# EAGLE library part 691311500115 (library Wurth_Elektronik_Electromechanic_Terminal_Blocks_Connectors_rev16b)
WR-TBL Serie 311 - 5.08 mm Close Vertical PCB Header , 15 Pins=>Code : Con_TBL_Pluggable_5.08_PCB_THT_Simple_V_691311500115 <http://katalog.we-online.de/media/images/eican/Con_TBL_Pluggable_5.08_PCB_THT_Simple_V_6913115001xx_pf2.jpg> Details see: http://katalog.we-online.de/en/em/691_311_500_1xx Created 2014-06-23, Karrer Zheng 2014 (C) Würth Elektronik
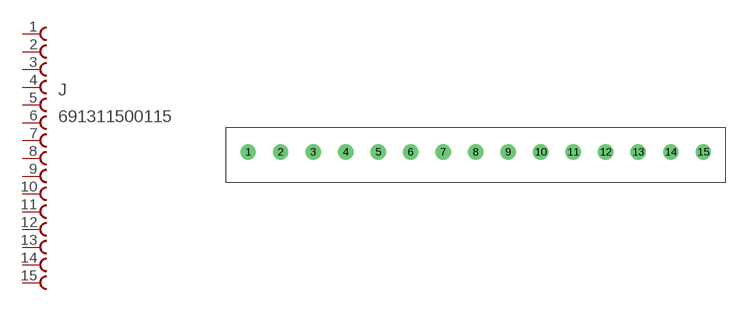
[diagram p80: symbol with the pads of 691311500115; footprint 691311500115]

Designator prefix J

## 691311500115  [691311500115]
1  1  pas
2  2  pas
3  3  pas
4  4  pas
5  5  pas
6  6  pas
7  7  pas
8  8  pas
9  9  pas
10  10  pas
11  11  pas
12  12  pas
13  13  pas
14  14  pas
15  15  pas

## Footprint 691311500115 (pad centres in mm)
WR-TBL Serie 311 - 5.08 mm Close Vertical PCB Header , 15 Pins
drill 1.6: 1 -71.12,0; 2 -66.04,0; 3 -60.96,0; 4 -55.88,0; 5 -50.8,0; 6 -45.72,0; 7 -40.64,0; 8 -35.56,0; 9 -30.48,0; 10 -25.4,0; 11 -20.32,0; 12 -15.24,0; 13 -10.16,0; 14 -5.08,0; 15 0,0